# Altium schematic symbol library Components - 12.02.20 - 19.48.SchLib: 1 symbol
Pins are listed as number, name and electrical type; pins without a type are passive.

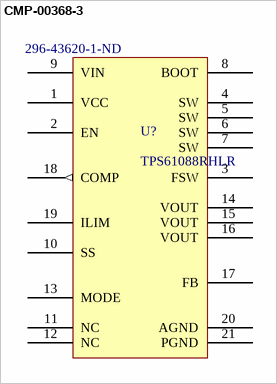
[diagram p0: symbol CMP-00368-3]

## CMP-00368-3
designator U?, comment TPS61088RHLR  Supplier Part Number 1: 296-43620-1-ND
Manufacturer: Texas Instruments; Function: Step-Up; Output Configuration: Positive; Topology: Boost; Output Type: Adjustable; Number of Outputs: 1; Voltage - Input (Min): 2.7V; Voltage - Input (Max): 12V; Voltage - Output (Min/Fixed): 4.5V; Voltage - Output (Max): 12.6V; Current - Output: 10A; Frequency - Switching: 200kHz ~ 2.2MHz; Synchronous Rectifier: Yes; SchLibComponentName: Component_1; Supplier 1: Digi-Key; Manufacturer Part Number: TPS61088RHLR; RoHS: RoHS Compliant; Category: Integrated Circuits (ICs); Stock 1: 3052; Pricing 1: 1=3.93, 10=3.53, 100=2.8922, 500=2.46212, 1000=2.07648 (USD); Packaging: Cut Tape (CT); Part Status: Active; Operating Temperature: -40°C ~ 85°C (TA); Mounting Type: Surface Mount; Package / Case: 20-VFQFN Exposed Pad; Supplier Device Package: 20-VQFN (3.5x4.5); ComponentLink1URL: http://www.ti.com/lit/ds/symlink/tps61088.pdf; ComponentLink1Description: http://www.ti.com/lit/ds/symlink/tps61088.pdf
footprint QFN50P450X350X100_HS-21N (QFN, 20-Leads, Body 4.50x3.50mm, Pitch 0.50mm/1.50mm, Thermal Pad 3.05x2.05mm, IPC Medium Density)
footprint QFN50P450X350X100_HS-21N (QFN, 20-Leads, Body 4.50x3.50mm, Pitch 0.50mm/1.50mm, Thermal Pad 3.05x2.05mm, IPC Medium Density)
pins: 1 VCC, 2 EN, 3 FSW, 4 SW, 5 SW, 6 SW, 7 SW, 8 BOOT, 9 VIN, 10 SS, 11 NC, 12 NC, 13 MODE, 14 VOUT, 15 VOUT, 16 VOUT, 17 FB, 18 COMP (out), 19 ILIM, 20 AGND, 21 PGND